# Altium footprint library BCM.PcbLib: 1 footprints
Each footprint in its own frame and in the unit in brackets; x right, y up, seen from the top. Pads: shape width x height; smd on the part's side, far side on the other; paste and mask are expansions set on the pad; w line width, h text height; cw(c..) or ccw(c..) is an arc to the next point about the centre after c.
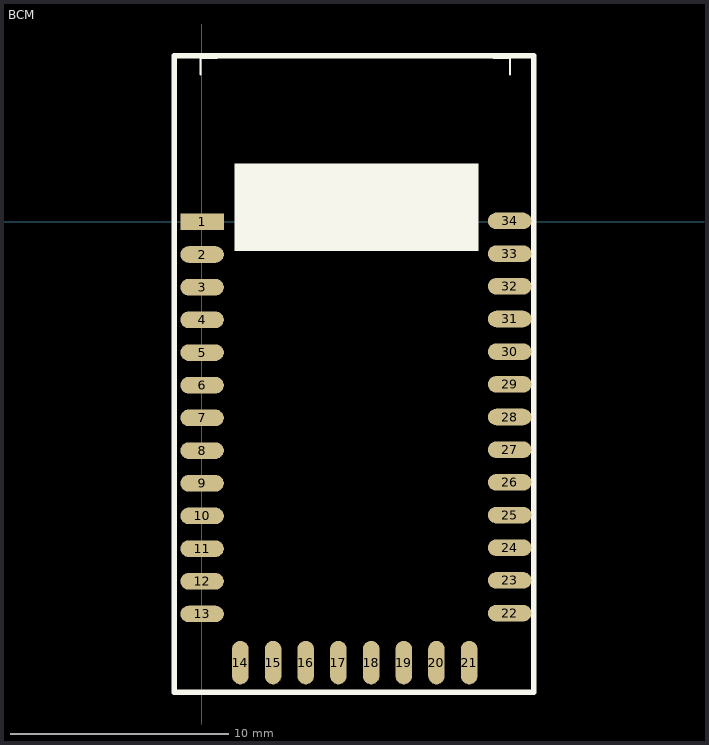
[diagram p0: the footprint, top view; thin cyan lines are the x and y axes]

## BCM [mm]
pads (34):
  rect 2x0.76 smd: 1(0.01,0)
  oval 2x0.76 smd: 2(0.01,-1.5) 3(0.01,-3) 4(0.01,-4.5) 5(0.01,-6) 6(0.01,-7.5) 7(0.01,-9) 8(0.01,-10.5) 9(0.01,-12) 10(0.01,-13.5) 11(0.01,-15) 12(0.01,-16.5) 13(0.01,-18) 22(14.13,-17.96) 23(14.13,-16.46) 24(14.13,-14.96) 25(14.13,-13.46) 26(14.13,-11.96) 27(14.13,-10.46) 28(14.13,-8.96) 29(14.13,-7.46) 30(14.13,-5.96) 31(14.13,-4.46) 32(14.13,-2.96) 33(14.13,-1.46) 34(14.13,0.04)
  oval 0.76x2 smd: 14(1.77,-20.23) 15(3.27,-20.23) 16(4.77,-20.23) 17(6.27,-20.23) 18(7.77,-20.23) 19(9.27,-20.23) 20(10.77,-20.23) 21(12.27,-20.23)
Top Overlay:
  region: 12.689,-1.33 12.689,2.67 1.489,2.67 1.489,-1.33
  lines w0.1: -0.06,6.77 -0.06,7.52 0.69,7.52 ; 13.39,7.52 14.14,7.52 14.14,6.77
  lines w0.254: -1.27,-21.59 15.24,-21.59 15.24,7.62 -1.27,7.62 -1.27,-20.955 -1.27,-21.59
3D body: height 3.05, standoff 0, extent -0.127,-20.447 14.224,7.493